# EAGLE library part FC1-05-02-T-WT-TR (library FC1-05-02-T-WT-TR)
FFC & FPC Connectors 1.00 mm Flat Flexible Cable (FFC) Socket Strip Source: Datasheet <http://suddendocs.samtec.com/catalog_english/fc1.pdf>
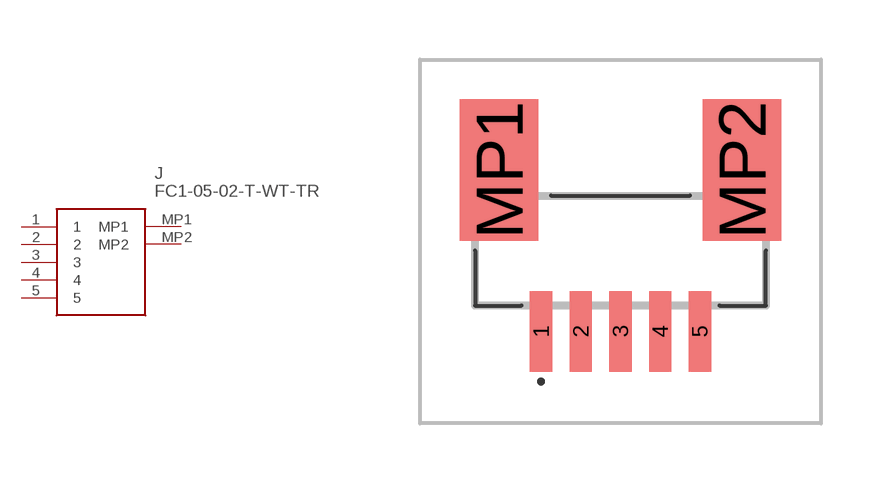
[diagram p0: symbol with the pads of FC10502TWTTR; footprint FC10502TWTTR]

Designator prefix J

## FC1-05-02-T-WT-TR (DESCRIPTION: FFC & FPC Connectors 1.00 mm Flat Flexible Cable (FFC) Socket Strip; HEIGHT: 5.19mm; MANUFACTURER_NAME: SAMTEC; MANUFACTURER_PART_NUMBER: FC1-05-02-T-WT-TR; MOUSER_PART_NUMBER: 200-FC10502TWTTR; MOUSER_PRICE-STOCK: https://www.mouser.co.uk/ProductDetail/Samtec/FC1-05-02-T-WT-TR?qs=rU5fayqh%252BE0IHNLE7hd%252B7w%3D%3D)  [FC10502TWTTR]
1  1
2  2
3  3
4  4
5  5
MP1  MP1
MP2  MP2

## Footprint FC10502TWTTR (pad centres in mm)
FC1-05-02-T-WT-TR-4
smd 0.56 x 2.03: 1 -2,-2.033; 2 -1,-2.033; 3 0,-2.033; 4 1,-2.033; 5 2,-2.033
smd 1.98 x 3.56: MP1 -3.06,2.033; MP2 3.06,2.033